# Altium footprint library Surface Mount.PcbLib: 24 footprints (part 1 of 2)
Each footprint in its own frame and in the unit in brackets; x right, y up, seen from the top. Pads: shape width x height; smd on the part's side, far side on the other; paste and mask are expansions set on the pad; w line width, h text height; cw(c..) or ccw(c..) is an arc to the next point about the centre after c.
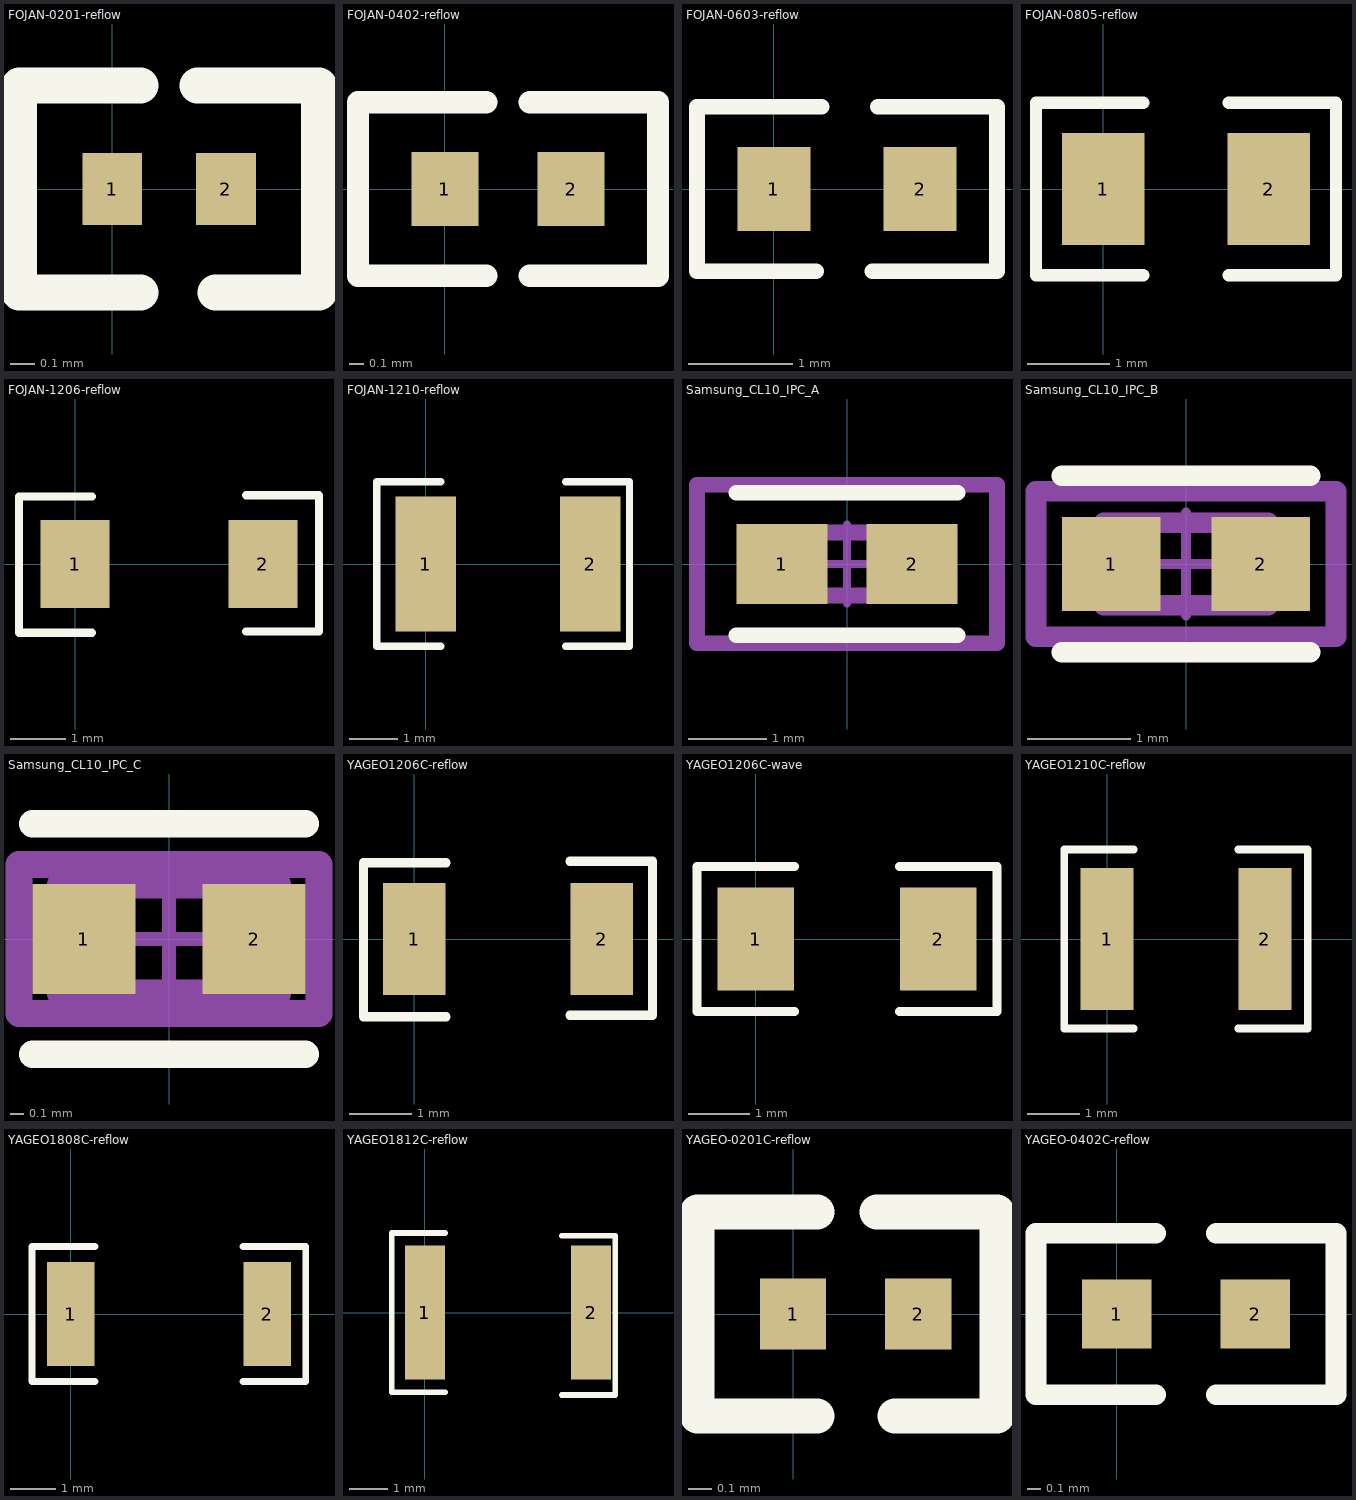
[diagram p0: the footprints below, top view; thin cyan lines are the x and y axes]

## FOJAN-0201-reflow [mm] "FOJAN(富捷)数据手册中推荐的0201贴片电容的回流焊封装"
pads (2):
  rect 0.25x0.3 smd mask+0.05: 1(0,0) 2(0.475,0)
Top Overlay:
  lines w0.15: 0.119,-0.432 -0.389,-0.432 -0.389,0.432 0.119,0.432 ; 0.356,0.432 0.864,0.432 0.864,-0.432 0.432,-0.432
3D body "Capacitors 0201.STEP": height 0.33, standoff 0.03, extent -0.062,-0.15 0.537,0.15

## FOJAN-0402-reflow [mm] "FOJAN(富捷)数据手册中推荐的0402贴片电容的回流焊封装"
pads (2):
  rect 0.45x0.5 smd: 1(0,0) 2(0.85,0)
Top Overlay:
  lines w0.15: 0.279,-0.584 -0.584,-0.584 -0.584,0.584 0.279,0.584 ; 0.571,-0.584 1.434,-0.584 1.434,0.584 0.571,0.584
3D body "Capacitors 0402.STEP": height 0.53, standoff 0.03, extent -0.075,-0.25 0.925,0.25

## FOJAN-0603-reflow [mm] "FOJAN(富捷)数据手册中推荐的0603贴片电容的回流焊封装"
pads (2):
  rect 0.7x0.8 smd: 1(0,0) 2(1.4,0)
Top Overlay:
  lines w0.15: 0.406,-0.787 -0.737,-0.787 -0.737,0.787 0.457,0.787 ; 0.943,-0.787 2.137,-0.787 2.137,0.787 0.994,0.787
3D body "Capacitors 0603.STEP": height 0.83, standoff 0.03, extent -0.1,-0.4 1.5,0.4

## FOJAN-0805-reflow [mm] "FOJAN(富捷)数据手册中推荐的0805贴片电容的回流焊封装"
pads (2):
  rect 1x1.35 smd: 1(0,0) 2(2,0)
Top Overlay:
  lines w0.15: 0.483,-1.041 -0.813,-1.041 -0.813,1.041 0.483,1.041 ; 1.517,-1.041 2.813,-1.041 2.813,1.041 1.517,1.041
3D body "Capacitors 0805.STEP": height 0.67, standoff 0.07, extent 0,-0.625 2,0.625

## FOJAN-1206-reflow [mm] "FOJAN(富捷)数据手册中推荐的1206贴片电容的回流焊封装"
pads (2):
  rect 1.25x1.6 smd: 1(0,0) 2(3.4,0)
Top Overlay:
  lines w0.15: 0.308,-1.245 -1.013,-1.245 -1.013,1.219 0.308,1.219 ; 3.092,-1.219 4.413,-1.219 4.413,1.245 3.092,1.245
3D body "Capacitors 1206.STEP": height 0.84, standoff 0.06, extent 0.1,-0.8 3.3,0.8

## FOJAN-1210-reflow [mm] "FOJAN(富捷)数据手册中推荐的1210贴片电容的回流焊封装"
pads (2):
  rect 1.25x2.8 smd: 1(0,0) 2(3.4,0)
Top Overlay:
  lines w0.15: 0.308,-1.702 -1.013,-1.702 -1.013,1.702 0.308,1.702 ; 2.892,-1.702 4.213,-1.702 4.213,1.702 2.892,1.702
3D body "Capacitors 1210.STEP": height 0.84, standoff 0.06, extent 0.1,-1.25 3.3,1.25

## Samsung_CL10_IPC_A [mm]
pads (2):
  rect 1.158x1.012 smd paste+0 mask+0: 1(-0.827,0) 2(0.827,0)
Top Overlay:
  lines w0.2: -1.406,-0.906 1.406,-0.906 ; -1.406,0.906 1.406,0.906
Mechanical 10:
  lines w0.2: -1.906,-1.006 -1.906,1.006 1.906,1.006 1.906,-1.006 -1.906,-1.006
Mechanical 12:
  lines w0.2: -0.8,-0.4 -0.8,0.4 0.8,0.4 0.8,-0.4 -0.8,-0.4
Mechanical 15:
  lines w0.1: -0.5,0 0.5,0 ; 0,-0.5 0,0.5
  lines w0.2: -1.906,-1.006 -1.906,1.006 1.906,1.006 1.906,-1.006 -1.906,-1.006
3D body "CL10A105KB8NNNC.stp": height 0.9, standoff 0, extent -0.8,-0.4 0.8,0.4

## Samsung_CL10_IPC_B [mm]
pads (2):
  rect 0.958x0.912 smd paste+0 mask+0: 1(-0.727,0) 2(0.727,0)
Top Overlay:
  lines w0.2: -1.206,-0.856 1.206,-0.856 ; -1.206,0.856 1.206,0.856
Mechanical 10:
  lines w0.2: -1.456,-0.706 1.456,-0.706 1.456,0.706 -1.456,0.706 -1.456,-0.706
Mechanical 12:
  lines w0.2: -0.8,-0.4 0.8,-0.4 0.8,0.4 -0.8,0.4 -0.8,-0.4
Mechanical 15:
  lines w0.1: -0.5,0 0.5,0 ; 0,-0.5 0,0.5
  lines w0.2: -1.456,-0.706 1.456,-0.706 1.456,0.706 -1.456,0.706 -1.456,-0.706
3D body "CL10A105KB8NNNC.stp": height 0.9, standoff 0, extent -0.8,-0.4 0.8,0.4

## Samsung_CL10_IPC_C [mm]
pads (2):
  rect 0.758x0.812 smd paste+0 mask+0: 1(-0.627,0) 2(0.627,0)
Top Overlay:
  lines w0.2: -1.006,-0.85 1.006,-0.85 ; -1.006,0.85 1.006,0.85
Mechanical 10:
  lines w0.2: -1.106,-0.55 1.106,-0.55 1.106,0.55 -1.106,0.55 -1.106,-0.55
Mechanical 12:
  lines w0.2: -0.8,-0.4 0.8,-0.4 0.8,0.4 -0.8,0.4 -0.8,-0.4
Mechanical 15:
  lines w0.1: -0.5,0 0.5,0 ; 0,-0.5 0,0.5
  lines w0.2: -1.106,-0.55 1.106,-0.55 1.106,0.55 -1.106,0.55 -1.106,-0.55
3D body "CL10A105KB8NNNC.stp": height 0.9, standoff 0, extent -0.8,-0.4 0.8,0.4

## YAGEO1206C-reflow [mm] "YAGEO(国巨)数据手册中推荐的1206贴片电容的回流焊封装"
pads (2):
  rect 1x1.8 smd: 1(0,0) 2(3,0)
Top Overlay:
  lines w0.15: 0.508,-1.245 -0.813,-1.245 -0.813,1.219 0.508,1.219 ; 2.492,-1.219 3.813,-1.219 3.813,1.245 2.492,1.245
3D body "Capacitors 1206.STEP": height 0.84, standoff 0.06, extent -0.1,-0.8 3.1,0.8

## YAGEO1206C-wave [mm] "YAGEO(国巨)数据手册中推荐的1206贴片电容的波峰焊封装"
pads (2):
  rect 1.25x1.7 smd: 1(0,0) 2(3,0)
Top Overlay:
  lines w0.15: 0.635,-1.194 -0.965,-1.194 -0.965,1.194 0.635,1.194 ; 2.365,-1.194 3.965,-1.194 3.965,1.194 2.365,1.194
3D body "Capacitors 1206.STEP": height 0.84, standoff 0.06, extent -0.1,-0.8 3.1,0.8

## YAGEO1210C-reflow [mm] "YAGEO(国巨)数据手册中推荐的1210贴片电容的回流焊封装"
pads (2):
  rect 1x2.7 smd: 1(0,0) 2(3,0)
Top Overlay:
  lines w0.15: 0.508,-1.702 -0.813,-1.702 -0.813,1.702 0.508,1.702 ; 2.492,-1.702 3.813,-1.702 3.813,1.702 2.492,1.702
3D body "Capacitors 1210.STEP": height 0.84, standoff 0.06, extent -0.1,-1.25 3.1,1.25

## YAGEO1808C-reflow [mm] "YAGEO(国巨)数据手册中推荐的1808贴片电容的回流焊封装"
pads (2):
  rect 1.05x2.3 smd: 1(0,0) 2(4.35,0)
Top Overlay:
  lines w0.15: 0.533,-1.499 -0.864,-1.499 -0.864,1.499 0.533,1.499 ; 3.817,-1.499 5.207,-1.499 5.207,1.499 3.817,1.499
3D body "Capacitors 1808.STEP": height 0.97, standoff 0.07, extent -0.075,-1 4.425,1

## YAGEO1812C-reflow [mm] "YAGEO(国巨)数据手册中推荐的1812贴片电容的回流焊封装"
pads (2):
  rect 1.05x3.5 smd: 1(0,0) 2(4.35,0)
Top Overlay:
  lines w0.15: 0.533,-2.083 -0.864,-2.083 -0.864,2.083 0.533,2.083 ; 3.581,-2.159 4.978,-2.159 4.978,2.007 3.581,2.007
3D body "Capacitors 1812.STEP": height 1.02, standoff 0.02, extent -0.075,-1.6 4.425,1.6

## YAGEO-0201C-reflow [mm] "YAGEO(国巨)数据手册中推荐的0201贴片电容的回流焊封装"
pads (2):
  rect 0.28x0.3 smd mask+0.05: 1(0,0) 2(0.53,0)
Top Overlay:
  lines w0.15: 0.102,-0.432 -0.406,-0.432 -0.406,0.432 0.102,0.432 ; 0.356,0.432 0.864,0.432 0.864,-0.432 0.432,-0.432
3D body "Capacitors 0201.STEP": height 0.33, standoff 0.03, extent -0.035,-0.15 0.565,0.15

## YAGEO-0402C-reflow [mm] "YAGEO(国巨)数据手册中推荐的0402贴片电容的回流焊封装"
pads (2):
  rect 0.5x0.5 smd: 1(0,0) 2(1,0)
Top Overlay:
  lines w0.15: 0.279,-0.584 -0.584,-0.584 -0.584,0.584 0.279,0.584 ; 0.721,-0.584 1.584,-0.584 1.584,0.584 0.721,0.584
3D body "Capacitors 0402.STEP": height 0.53, standoff 0.03, extent 0,-0.25 1,0.25